# Altium schematic symbol library EL-sense_Interface_ICs.SchLib: 1 symbol
Pins are listed as number, name and electrical type; pins without a type are passive.

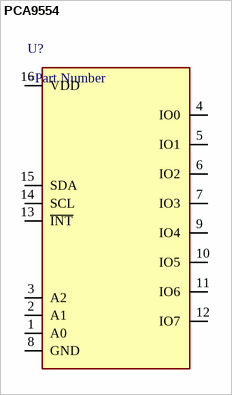
[diagram p0: symbol PCA9554]

## PCA9554
designator U?
pins: 1 A0, 2 A1, 3 A2, 4 IO0 (io), 5 IO1 (io), 6 IO2 (io), 7 IO3 (io), 8 GND, 9 IO4 (io), 10 IO5 (io), 11 IO6 (io), 12 IO7 (io), 13 ~{INT}, 14 SCL, 15 SDA, 16 VDD